# Altium footprint library PCB_power_unit.PcbLib: 18 footprints (part 1 of 2)
Each footprint in its own frame and in the unit in brackets; x right, y up, seen from the top. Pads: shape width x height; smd on the part's side, far side on the other; paste and mask are expansions set on the pad; w line width, h text height; cw(c..) or ccw(c..) is an arc to the next point about the centre after c.
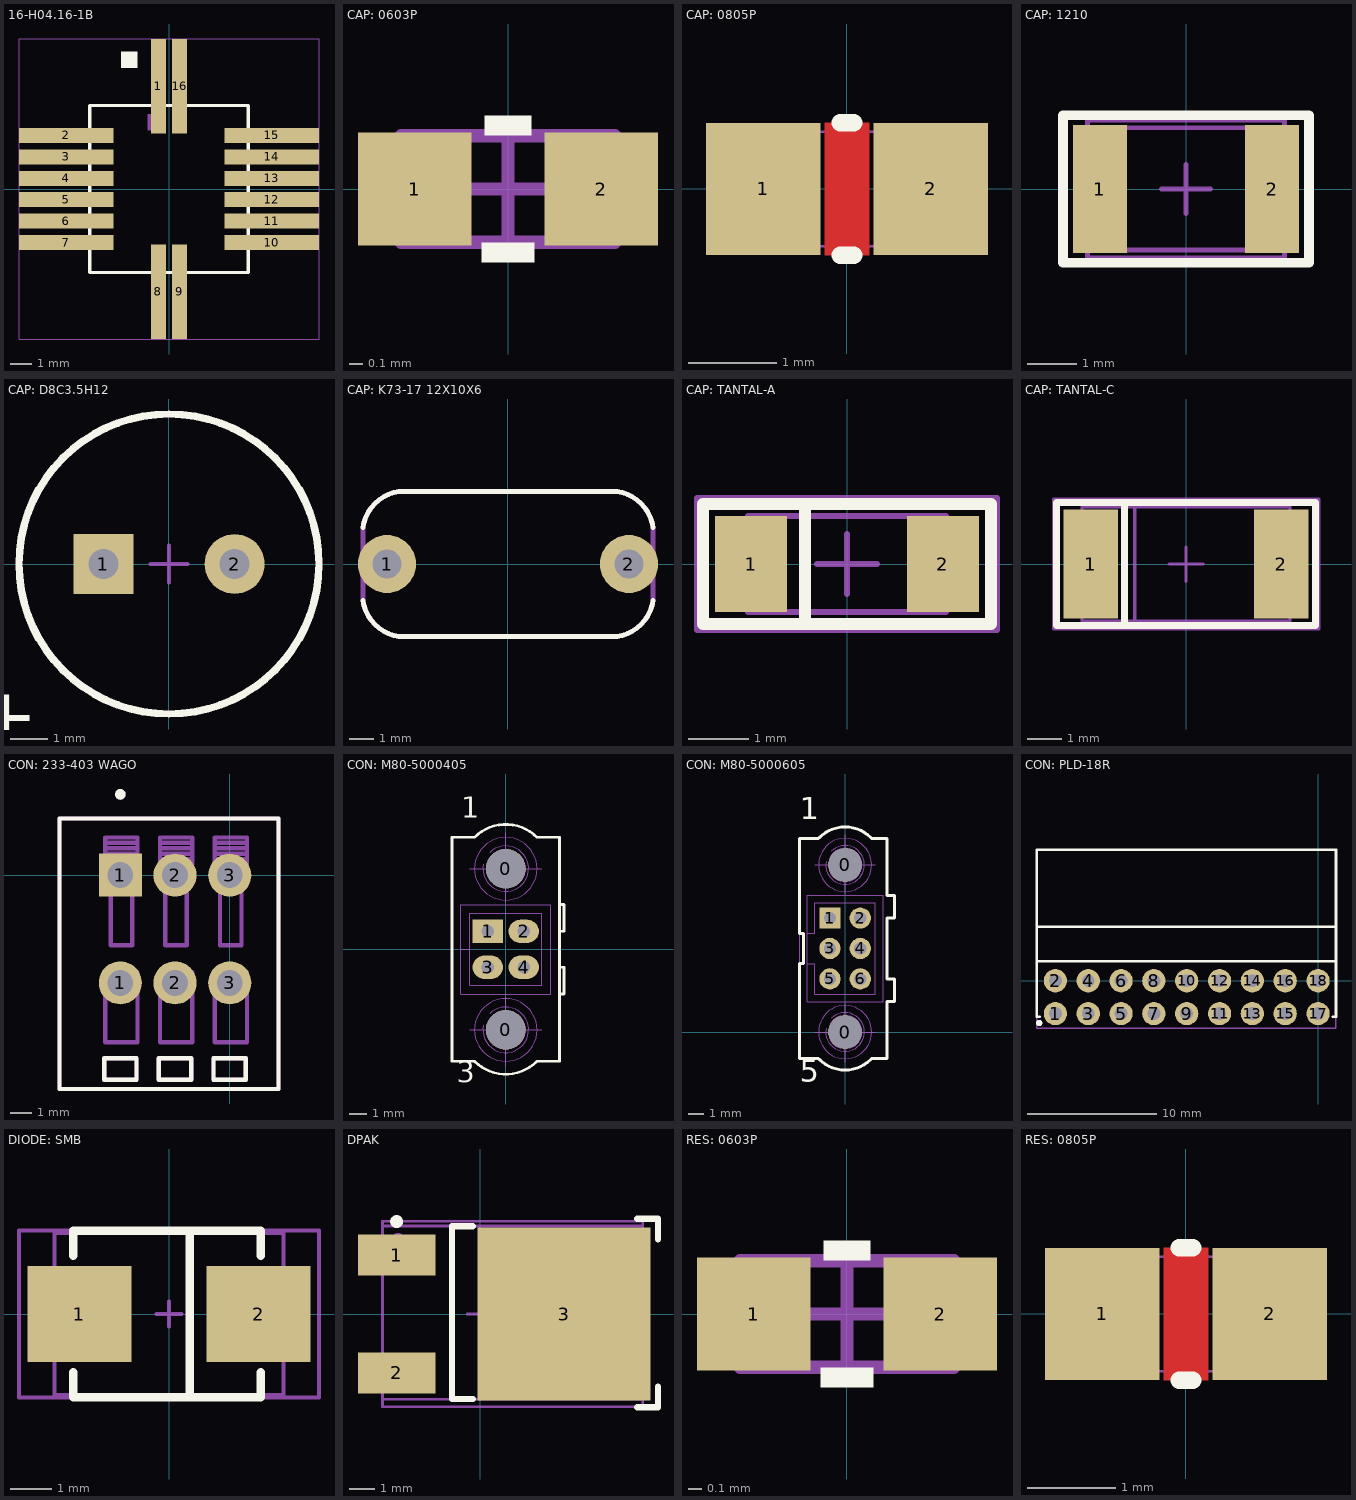
[diagram p0: the footprints below, top view; thin cyan lines are the x and y axes]

## 16-Н04.16-1B [mm] "USSR"
height 3
pads (16):
  rect 0.7x4.4 smd mask+0.05: 1(-0.5,4.8) 8(-0.5,-4.8) 9(0.5,-4.8) 16(0.5,4.8)
  rect 4.4x0.7 smd mask+0.05: 2(-4.8,2.5) 3(-4.8,1.5) 4(-4.8,0.5) 5(-4.8,-0.5) 6(-4.8,-1.5) 7(-4.8,-2.5) 10(4.8,-2.5) 11(4.8,-1.5) 12(4.8,-0.5) 13(4.8,0.5) 14(4.8,1.5) 15(4.8,2.5)
Top Overlay:
  region: -2.225,5.65 -1.475,5.65 -1.475,6.4 -2.225,6.4
  lines w0.15: -4.775,-2.5 -3.7,-2.5 ; -4.775,-1.5 -3.7,-1.5 ; -4.775,-0.5 -3.7,-0.5 ; -4.775,0.5 -3.7,0.5 ; -4.775,1.5 -3.7,1.5 ; -4.775,2.5 -3.7,2.5 ; -0.5,-4.775 -0.5,-3.9 ; -0.5,3.9 -0.5,4.8 ; 0.5,-4.775 0.5,-3.9 ; 0.5,3.9 0.5,4.8 ; 3.7,-2.5 4.775,-2.5 ; 3.7,-1.5 4.775,-1.5 ; 3.7,-0.5 4.775,-0.5 ; 3.7,0.5 4.775,0.5 ; 3.7,1.5 4.775,1.5 ; 3.7,2.5 4.775,2.5 ; -3.7,-3.9 3.7,-3.9 3.7,3.9 -3.7,3.9 -3.7,-3.9
Mechanical 1:
  region: -1,2.75 -0.25,2.75 -0.25,3.5 -1,3.5
  lines w0.05: -7,-2.5 -3.7,-2.5 ; -7,-1.5 -3.7,-1.5 ; -7,-0.5 -3.7,-0.5 ; -7,0.5 -3.7,0.5 ; -7,1.5 -3.7,1.5 ; -7,2.5 -3.7,2.5 ; -0.5,-7 -0.5,-3.9 ; -0.5,3.9 -0.5,7 ; 0.5,-7 0.5,-3.9 ; 0.5,3.9 0.5,7 ; 3.7,-2.5 7,-2.5 ; 3.7,-1.5 7,-1.5 ; 3.7,-0.5 7,-0.5 ; 3.7,0.5 7,0.5 ; 3.7,1.5 7,1.5 ; 3.7,2.5 7,2.5 ; -3.7,-3.9 3.7,-3.9 3.7,3.9 -3.7,3.9 -3.7,-3.9
Mechanical 11:
  text ".Designator" at -3.025,-0.35 h1.4
Mechanical 16:
  lines w0.05: -7,-7 7,-7 7,7 -7,7 -7,-7
3D body "Н04.16-1В.STEP": height 2.92, standoff 0, extent -7.84,-8 7.84,8

## CAP: 0603P [mm] "small var"
height 0.45
pads (2):
  rect 0.85x0.85 smd: 1(-0.7,0) 2(0.7,0)
Top Overlay:
  rectangle: -0.198,-0.55 0.198,-0.4
  rectangle: -0.178,0.4 0.178,0.55
Mechanical 1:
  lines w0.1: -0.8,-0.4 -0.8,0.4 0.8,0.4 0.8,-0.4 -0.8,-0.4
Mechanical 15:
  lines w0.1: -0.475,0 0.475,0 ; 0,-0.475 0,0.475
3D body "SW3dPS-0603 SMD Capacitor.STEP": height 0.3, standoff 0, extent -0.8,-0.4 0.8,0.4

## CAP: 0805P [mm] "small footprint"
height 0.55
pads (2):
  rect 1.3x1.5 smd: 1(-0.95,0) 2(0.95,0)
Top Layer:
  pour cut-out: -0.25,-0.75 -0.25,0.75 0.25,0.75 0.25,-0.75
Top Overlay:
  lines w0.2: -0.075,-0.75 0.075,-0.75 ; -0.075,0.75 0.075,0.75
Mechanical 1:
  lines w0.025: -1,-0.65 1,-0.65 1,0.65 -1,0.65 -1,-0.65
3D body "SW3dPS-0805 SMD Capacitor.STEP": height 0.78, standoff 0, extent -1,-0.625 1,0.625

## CAP: 1210 [mm]
height 2.5
pads (2):
  rect 1.1x2.6 smd: 1(-1.75,0) 2(1.75,0)
Top Overlay:
  lines w0.2: -2.5,-1.5 -2.5,1.5 2.5,1.5 2.5,-1.5 -2.5,-1.5
Mechanical 1:
  lines w0.1: -2,-1.244 2,-1.244 2,1.245 -2,1.245 -2,-1.244
Mechanical 15:
  lines w0.1: -0.5,0 0.5,0 ; 0,-0.5 0,0.5 ; -2,-1.4 -2,1.4 2,1.4 2,-1.4 -2,-1.4
3D body "User Library-1210(3225M) Cap.STEP": height 1.7, standoff 0, extent -2,-1.245 2,1.245

## CAP: D8C3.5H12 [mm]
height 12
pads (2):
  rect 1.6x1.6 hole 0.8: 1(-1.75,0)
  round 1.6 hole 0.8: 2(1.75,0)
Top Overlay:
  circle w0.2: c0,0 r4
  text "+" at -3.5,-3 h2.5
Mechanical 1:
  circle w0.1: c0,0 r4
Mechanical 15:
  circle w0.1: c0,0 r4
  lines w0.1: -0.5,0 0.5,0 ; 0,-0.5 0,0.5
3D body "User Library-CapAluRadial_D80H115.STEP": height 13, standoff -3, extent -4.25,-4.247 4.25,4.247

## CAP: K73-17 12X10X6 [mm] "63V, 0.22uF"
height 10
pads (2):
  round 2.4 hole 1.2: 1(-5,0) 2(5,0)
Top Overlay:
  lines w0.2: -6,-1.5 ccw(c-4.25,-1.25) -4.5,-3 4.5,-3 ccw(c4.25,-1.25) 6,-1.5 ; -6,1.5 cw(c-4.25,1.25) -4.5,3 4.5,3 cw(c4.25,1.25) 6,1.5
Mechanical 1:
  lines w0.2: -6,-1.5 ccw(c-4.25,-1.25) -4.5,-3 4.5,-3 ccw(c4.25,-1.25) 6,-1.5 6,1.5 ccw(c4.25,1.25) 4.5,3 -4.5,3 ccw(c-4.25,1.25) -6,1.5 -6,-1.5
Mechanical 15:
  lines w0.2: -6,-1.5 ccw(c-4.25,-1.25) -4.5,-3 4.5,-3 ccw(c4.25,-1.25) 6,-1.5 6,1.5 ccw(c4.25,1.25) 4.5,3 -4.5,3 ccw(c-4.25,1.25) -6,1.5 -6,-1.5
3D body "CAPRR1000W60L1300T500H1100.STEP": height 12.7, standoff -0.75, extent -6.5,-2.5 6.5,2.5

## CAP: TANTAL-A [mm]
height 1.6
pads (2):
  rect 1.2x1.6 smd: 1(-1.6,0) 2(1.6,0)
Top Overlay:
  lines w0.2: -0.7,-1 -0.7,1 ; -2.4,-1 -2.4,1 2.4,1 2.4,-1 -2.4,-1
Mechanical 1:
  lines w0.1: -0.7,-0.8 -0.7,0.8 ; -1.651,-0.8 -1.651,0.8 1.651,0.8 1.651,-0.8 -1.651,-0.8
Mechanical 15:
  lines w0.1: -0.5,0 0.5,0 ; 0,-0.5 0,0.5 ; -2.5,-1.1 2.5,-1.1 2.5,1.1 -2.5,1.1 -2.5,-1.1
3D body "User Library-AVX_ACASE.STEP": height 1.71, standoff 0, extent -1.7,-0.84 1.7,0.84

## CAP: TANTAL-C [mm]
height 2.5
pads (2):
  rect 1.6x3.2 smd: 1(-2.8,0) 2(2.8,0)
Top Overlay:
  lines w0.2: -1.8,-1.8 -1.8,1.8 ; -3.8,-1.8 -3.8,1.8 3.8,1.8 3.8,-1.8 -3.8,-1.8
Mechanical 1:
  lines w0.1: -1.5,-1.675 -1.5,1.675 ; -3.05,-1.675 3.05,-1.675 3.05,1.675 -3.05,1.675 -3.05,-1.675
Mechanical 15:
  lines w0.1: -0.5,0 0.5,0 ; 0,-0.5 0,0.5 ; -3.875,-1.9 3.9,-1.9 3.9,1.9 -3.875,1.9 -3.875,-1.9
3D body "User Library-AVX_C_CASE.STEP": height 2.7, standoff 0, extent -3.05,-1.675 3.05,1.675

## CON: 233-403 WAGO [mm] "pcb terminal strip"
height 11.7
pads (8):
  round 2 hole 1.2: 1(-5.08,-5) 2(-2.54,-5) 2(-2.54,0) 3(0,-5) 3(0,0)
  rect 2x2 hole 1.2: 1(-5.08,0)
  round 0.5 on Mech1: ""(-5.08,3.75)
  round 0.5 on Top Overlay: ""(-5.08,3.75)
Top Overlay:
  lines w0.2: -7.907,-9.927 2.267,-9.927 2.267,2.627 -7.907,2.627 -7.907,-9.927 ; -5.83,-9.5 -4.33,-9.5 -4.33,-8.5 -5.83,-8.5 -5.83,-9.5 ; -3.29,-9.5 -1.79,-9.5 -1.79,-8.5 -3.29,-8.5 -3.29,-9.5 ; -0.75,-9.5 -0.75,-8.5 0.75,-8.5 0.75,-9.5 -0.75,-9.5
Mechanical 1:
  lines w0.2: -5.78,1.25 -4.28,1.25 ; -5.78,1.5 -4.28,1.5 ; -4.28,0.75 -5.78,0.75 -5.78,1 ; -3.24,1.25 -1.74,1.25 ; -3.24,1.5 -1.74,1.5 ; -1.74,0.75 -3.24,0.75 -3.24,1 ; -0.7,1.25 0.8,1.25 ; -0.7,1.5 0.8,1.5 ; 0.8,0.75 -0.7,0.75 -0.7,1 ; -5.78,0.5 -5.53,0.5 -5.53,-3.25 -4.53,-3.25 -4.53,0.5 -4.28,0.5 ; -5.78,0.5 -5.78,1 ; -5.78,0.5 -5.78,1.75 -4.28,1.75 -4.28,0.5 ; -5.78,0.5 -4.28,0.5 ; -5.78,1 -4.28,1 -4.28,0.5 ; -3.24,0.5 -1.74,0.5 ; -3.24,0.5 -3.24,1.75 -1.74,1.75 -1.74,0.5 ; -3.24,0.5 -3.24,1 ; -3.24,0.5 -2.99,0.5 -2.99,-3.25 -1.99,-3.25 -1.99,0.5 -1.74,0.5 ; -3.24,1 -1.74,1 -1.74,0.5 ; -0.7,0.5 -0.45,0.5 -0.45,-3.25 0.55,-3.25 0.55,0.5 0.8,0.5 ; -0.7,0.5 -0.7,1 ; -0.7,0.5 -0.7,1.75 0.8,1.75 0.8,0.5 ; -0.7,0.5 0.8,0.5 ; -0.7,1 0.8,1 0.8,0.5 ; -7.907,-9.927 2.267,-9.927 2.267,2.627 -7.907,2.627 -7.907,-9.927 ; -5.83,-9.5 -4.33,-9.5 -4.33,-8.5 -5.83,-8.5 -5.83,-9.5 ; -5.78,-7.75 -4.28,-7.75 -4.28,-4.5 -5.78,-4.5 -5.78,-7.75 ; -3.29,-9.5 -1.79,-9.5 -1.79,-8.5 -3.29,-8.5 -3.29,-9.5 ; -3.24,-7.75 -3.24,-4.5 -1.74,-4.5 -1.74,-7.75 -3.24,-7.75 ; -0.75,-9.5 -0.75,-8.5 0.75,-8.5 0.75,-9.5 -0.75,-9.5 ; -0.7,-7.75 0.8,-7.75 0.8,-4.5 -0.7,-4.5 -0.7,-7.75
  text "1" at -6.78,-0.05 h0.94
3D body "233-403.stp": height 11.73, standoff -4, extent -7.907,-9.927 2.013,2.397

## CON: M80-5000405 [mm] "4 pin; Harwin без винтов"
height 5.5
pads (6):
  round 2.2 hole 2.2 unplated: 0(0,-4.5) 0(0,4.5)
  rect 1.7x1.3 hole 0.7: 1(-1,1)
  oval 1.7x1.3 hole 0.7: 2(1,1) 3(-1,-1) 4(1,-1)
Top Overlay:
  lines w0.15: 3,-5 3,3 ; 3,-1 3.25,-1 3.25,-2.5 3,-2.5 3,-6.25 1.75,-6.25 cw(c0,-4.5) -1.75,-6.25 -3,-6.25 -3,6.25 -1.75,6.25 cw(c0,4.5) 1.75,6.25 3,6.25 3,2.5 3.25,2.5 3.25,1 3,1
  text "3" at -2.747,-7.8 h2
  text "1" at -2.497,6.95 h2
Mechanical 1:
  circle w0.05: c0,-4.5 r1.75
  circle w0.05: c0,-4.5 r1
  circle w0.05: c0,4.5 r1.75
  circle w0.05: c0,4.5 r1
  circle w0.05: c-1,1 r0.25
  circle w0.05: c-1,-1 r0.25
  circle w0.05: c-1,-1 r0.25
  circle w0.05: c-1,-1 r0.25
  circle w0.05: c1,-1 r0.25
  circle w0.05: c1,-1 r0.25
  circle w0.05: c1,-1 r0.25
  circle w0.05: c1,1 r0.25
  circle w0.05: c1,1 r0.25
  circle w0.05: c-1,1 r0.25
  lines w0.05: -3,-3 -3,6.25 -1.75,6.25 cw(c0,4.5) 1.75,6.25 3,6.25 3,2.5 3.25,2.5 3.25,1 3,1 ; -3,-1 -3,-6.25 -1.75,-6.25 ccw(c0,-4.5) 1.75,-6.25 3,-6.25 3,-2.5 3.25,-2.5 ; -2,-4.5 2,-4.5 ; -2,4.5 2,4.5 ; -1.5,-4.5 1.5,-4.5 ; -1.25,-4.248 ccw(c0,-4.5) -0.901,-3.599 ; -1.25,4.752 ccw(c0,4.5) -0.901,5.401 ; 0,-6.5 0,-2.65 ; 0,2.6 0,6.5 ; 2,-1 2,-2 ; 2.5,-1 2.5,-2.5 ; 3,3 3,-3 3,-1 3.25,-1 ; -2.5,0 -2,0 ; -2.5,0 -2,0 ; -2.5,0 -2.5,-2 -2.5,2.5 2.5,2.5 2.5,-2.5 ; -2.5,0 -2.5,-2.5 0,-2.5 2.5,-2.5 ; -2,-2 -2,0 ; -2,-2 2,-2 ; -2,-2 -2,0 ; -2,-2 -2,2 2,2 2,-2 ; 3.25,-2.5 3.25,-1 ; 3.25,-2.5 3.25,-1
3D body "m80-5000405_asm.stp": height 5.6, standoff -3.25, extent -2.775,-7 3.275,7

## CON: M80-5000605 [mm] "HR500"
height 5.6
pads (8):
  round 2.2 hole 2.2 unplated mask+0.1: 0(0,0) 0(0,11)
  rect 1.4x1.4 hole 0.8: 1(-1,7.5)
  round 1.4 hole 0.8: 2(1,7.5) 3(-1,5.5) 4(1,5.5) 5(-1,3.5) 6(1,3.5)
Top Overlay:
  lines w0.2: -3,-1.75 -3,4.5 -2.75,4.5 -2.75,6.5 -3,6.5 -3,12.75 -1.75,12.75 -1.707,12.793 cw(c0,11.086) 0,13.5 cw(c0,11.086) 1.707,12.793 1.75,12.75 2.75,12.75 2.75,9 3.25,9 3.25,7.5 2.75,7.5 2.75,3.5 3.25,3.5 3.25,2 2.75,2 2.75,-1.75 1.75,-1.75 1.707,-1.793 cw(c0,-0.086) 0,-2.5 cw(c0,-0.086) -1.707,-1.793 -1.75,-1.75 -3,-1.75
  text "5" at -3,-3.75 h2.5
  text "1" at -3,13.5 h2.5
Mechanical 1:
  circle w0.05: c-1,7.5 r0.25
  circle w0.05: c1,7.5 r0.25
  circle w0.05: c1,5.5 r0.25
  circle w0.05: c1,3.5 r0.25
  circle w0.05: c-1,3.5 r0.25
  circle w0.05: c-1,5.5 r0.25
  circle w0.05: c0,0 r1.1
  circle w0.05: c0,11 r1.1
  circle w0.05: c0,0 r1.75
  circle w0.05: c0,11 r1.75
  lines w0.05: -2.5,4.5 -2,4.5 -2,2.5 2,2.5 2,8.5 -2,8.5 -2,6.5 -2.5,6.5 ; -2,0 2,0 ; -2,11 2,11 ; -1.25,0.252 ccw(c0,0) -0.901,0.901 ; -1.25,11.252 ccw(c0,11) -0.901,11.901 ; 0,-2 0,1.85 ; 0,9.1 0,13 ; -3,-1.75 -1.75,-1.75 ccw(c0,0) 1.75,-1.75 2.75,-1.75 2.75,2 3.25,2 3.25,3.5 2.75,3.5 2.75,7.5 3.25,7.5 3.25,9 2.75,9 2.75,12.75 1.75,12.75 ccw(c0,11) -1.75,12.75 -3,12.75 -3,-1.75 ; -2.5,2 -2.5,9 2.5,9 2.5,2 -2.5,2
3D body "Вилка M80-5000642.stp": height 5.6, standoff -3.25, extent -2.775,-2.5 3.275,13.5

## CON: PLD-18R [mm] "шаг 2.54,  угловая вилка"
height 10
pads (19):
  round 1.8 hole 1: 1(-20.32,-2.54) 2(-20.32,0) 3(-17.78,-2.54) 4(-17.78,0) 5(-15.24,-2.54) 6(-15.24,0) 7(-12.7,-2.54) 8(-12.7,0) 9(-10.16,-2.54) 10(-10.16,0) 11(-7.62,-2.54) 12(-7.62,0) 13(-5.08,-2.54) 14(-5.08,0) 15(-2.54,-2.54) 16(-2.54,0) 17(0,-2.54) 18(0,0)
  round 0.5 on Top Overlay: ""(-21.57,-3.27)
Top Overlay:
  lines w0.2: -21.77,1.5 1.39,1.5 ; -21.77,4.17 1.39,4.17 ; -21.53,-2.77 -21.77,-2.77 -21.77,10.13 1.39,10.13 1.39,-2.77 1.15,-2.77
Mechanical 1:
  lines w0.1: -21.77,-3.67 -21.77,10.13 1.39,10.13 1.39,-3.67 -21.77,-3.67
Mechanical 15:
  lines w0.1: 1.39,-3.67 1.39,10.13 ; 1.39,-3.67 -21.77,-3.67 -21.77,10.13 1.39,10.13 ; 1.39,-3.67 1.39,10.13
3D body "PinHeader_2x09_P2.54mm_Horizontal.step": height 5.08, standoff -3, extent -21.589,-2.82 1.271,10.08

## DIODE: SMB [mm]
height 1.6
pads (2):
  rect 2.5x2.3 smd: 1(-2.15,0) 2(2.15,0)
Top Overlay:
  lines w0.2: -2.3,-1.4 -2.3,-2 2.2,-2 2.2,-1.4 ; -2.3,1.4 -2.3,2 2.2,2 2.2,1.4 ; 0.5,-2 0.5,2
Mechanical 1:
  lines w0.1: 0.5,-1.95 0.5,1.95 ; -2.75,-1.95 2.75,-1.95 2.75,1.95 -2.75,1.95 -2.75,-1.95
Mechanical 15:
  lines w0.1: -0.3,0 0.3,0 ; 0,-0.3 0,0.3 ; -3.6,-2 -3.6,2 3.6,2 3.6,-2 -3.6,-2
3D body "User Library-DIOM5539X24.STEP": height 2.45, standoff 0.03, extent -2.75,-1.95 2.75,1.95

## DPAK [mm]
height 2.4
pads (4):
  rect 3x1.6 smd: 1(-3.25,2.29) 2(-3.25,-2.29)
  rect 6.7x6.7 smd: 3(3.25,0)
  round 0.5 on Mech1: ""(-3.2,2.9)
Top Overlay:
  circle w0.25: c-3.25,3.59 r0.125
  lines w0.25: -0.3,-3.3 -1.1,-3.3 -1.1,3.4 -0.3,3.4 ; 6.1,-3.617 6.9,-3.617 6.9,-2.817 ; 6.1,3.7 6.9,3.7 6.9,2.9
Mechanical 1:
  lines w0.1: -3.798,-3.317 -3.798,3.417 6.302,3.417 ; -3.798,-3.317 -3.798,-3.317 ; -3.798,-3.317 6.302,-3.317 6.302,3.417 ; 6.302,3.417 6.302,3.417
Mechanical 15:
  lines w0.1: -0.5,0 0.5,0 ; 0,-0.5 0,0.5 ; -3.8,-3.6 6.3,-3.6 6.3,3.6 -3.8,3.6 -3.8,-3.6
3D body "User Library-DPAK_TO-252AA.STEP": height 2.37, standoff -0.03, extent -3.798,-3.317 6.302,3.417

## RES: 0603P [mm] "small footprint"
height 0.45
pads (2):
  rect 0.85x0.85 smd: 1(-0.7,0) 2(0.7,0)
Top Overlay:
  rectangle: -0.198,-0.55 0.198,-0.4
  rectangle: -0.178,0.4 0.178,0.55
Mechanical 1:
  lines w0.1: -0.8,-0.4 -0.8,0.4 0.8,0.4 0.8,-0.4 -0.8,-0.4
Mechanical 15:
  lines w0.1: -0.475,0 0.475,0 ; 0,-0.475 0,0.475
3D body "chip_0603_r.STEP": height 0.44, standoff -0.02, extent -0.8,-0.4 0.8,0.4

## RES: 0805P [mm] "small footprint"
height 0.55
pads (2):
  rect 1.3x1.5 smd: 1(-0.95,0) 2(0.95,0)
Top Layer:
  pour cut-out: -0.25,-0.75 -0.25,0.75 0.25,0.75 0.25,-0.75
Top Overlay:
  lines w0.2: -0.075,-0.75 0.075,-0.75 ; -0.075,0.75 0.075,0.75
Mechanical 1:
  lines w0.025: -1,-0.65 1,-0.65 1,0.65 -1,0.65 -1,-0.65
3D body "R-0805.STEP": height 0.6, standoff 0, extent -1,-0.625 1,0.625